# Altium integrated library Lattice ORCA Series 3.IntLib: 93 symbols (part 4 of 14)
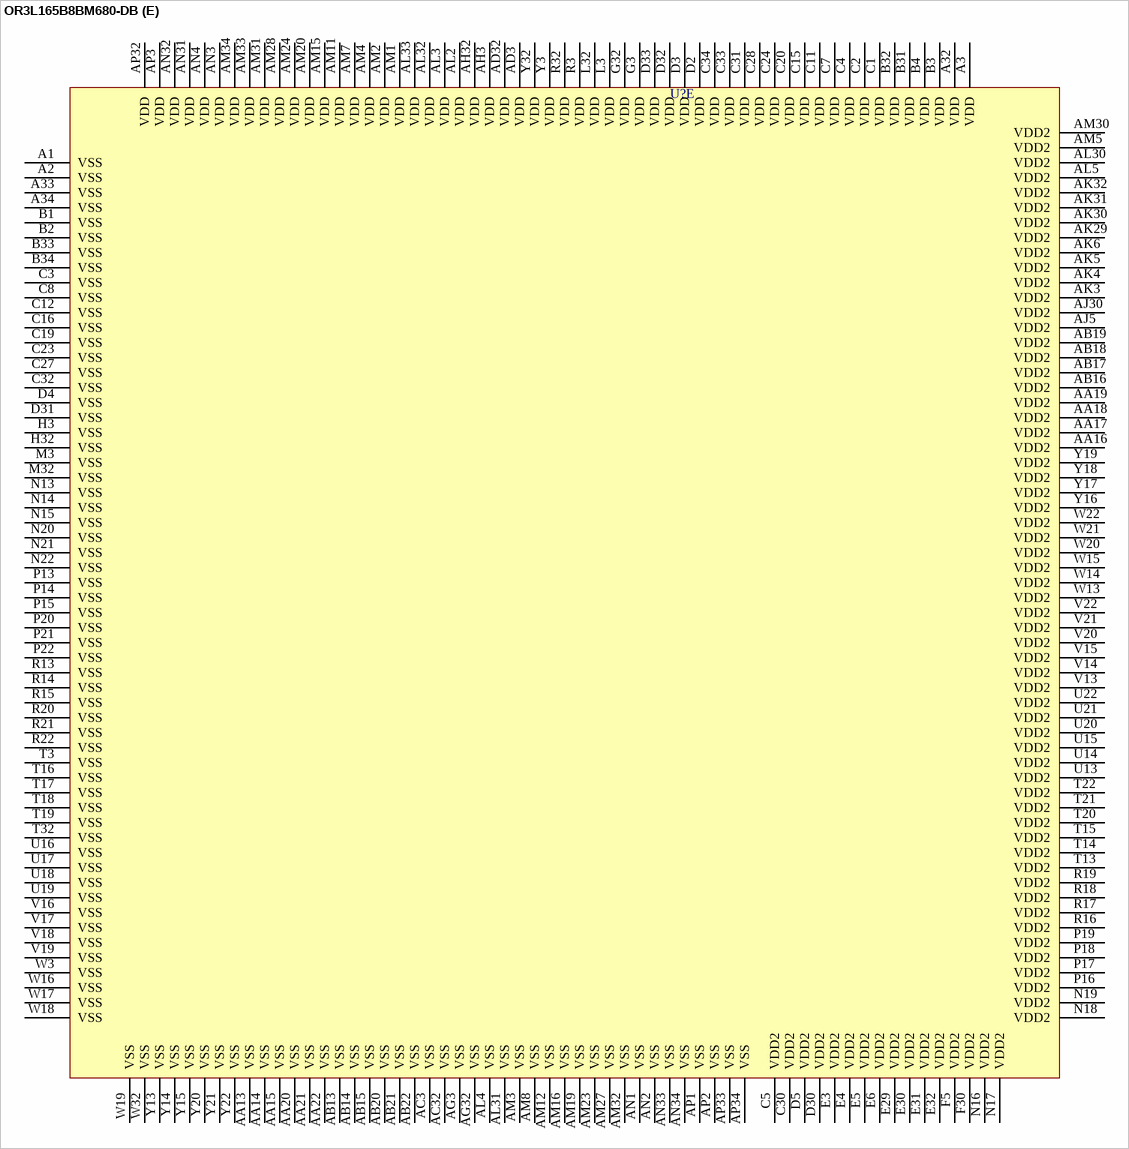
[diagram p139: symbol OR3L165B8BM680-DB]

## OR3L165B8BM680-DB
designator U?
ORCA Series 3L FPGA: 2.5 V, Commercial Grade, 516 I/Os.; Published: 21-May-2003; LatestRevisionDate: 13-Apr-2006; LatestRevisionNote: IPC-7351 Footprint Added.; DatasheetVersion: Mar-2002; PackageVersion: pkg_32, Aug-2005; PackageReference: fpBGA680; Publisher: Altium Limited; PackageDescription: 680-Ball Fine Pitch Ball Grid Array (fpBGA680); ComponentLink1Description: Manufacturer Link; ComponentLink1URL: http://www.latticesemi.com/products/fpga/orca/orca3/index.cfm; ComponentLink2Description: Datasheet; ComponentLink2URL: http://www.latticesemi.com/account/_download.cfm?AMID=3971; ComponentLink3Description: Lattice Login; ComponentLink3URL: http://www.latticesemi.com/account/login.cfm
footprint fpBGA680 (BGA, 680-Leads, Body 35x35mm, Pitch 1mm)
3D model OR3L165B-fpBGA680 (680-Ball Fine Pitch Ball Grid Array (fpBGA680))
part A pins: AA1 PL21B (io), AA2 PL21A (io), AA3 PL22D (io), AA4 PL22C (io), AA5 PL22B (io), AB1 PL22A/A11/~{MPI_IRQ} (io), AB2 PL23D/A12 (io), AB3 PL23C (io), AB4 PL23A (io), AB5 PL24D (io), AC1 PL24C (io), AC2 PL24B/A13 (io), AC4 PL24A (io), AC5 PL25D (io), AD1 PL25C (io), AD2 PL25B (io), AD4 PL25A (io), AD5 PL26D (io), AE1 PL26C (io), AE2 PL26B (io), AE3 PL26A (io), AE4 PL27D (io), AE5 PL27C (io), AF1 PL27B (io), AF2 PL27A/A14 (io), AF3 PL28D (io), AF4 PL28C (io), AF5 PL28B (io), AG1 PL28A (io), AG2 PL29C (io), AG4 PL29B (io), AG5 PL29A (io), AH1 PL30D (io), AH2 PL30C (io), AH4 PL30B (io), AH5 PL30A/SECKLL (io), AJ1 PL31D (io), AJ2 PL31C (io), AJ3 PL31A (io), AJ4 PL32C (io), AK1 PL32B (io), AK2 PL32A/A15 (io), D1 PL1D (io), E1 PL1B (io), E2 PL1C (io), F1 PL3D/A0/~{MPI_BE0} (io), F2 PL2A (io), F3 PL2D (io), F4 PL1A (io), G1 PL4D (io), G2 PL3A (io), G4 PL3B (io), G5 PL3C (io), H1 PL5C (io), H2 PL4A (io), H4 PL4B (io), H5 PL4C (io), J1 PL6B (io), J2 PL6C (io), J3 PL6D (io), J4 PL5A (io), J5 PL5B (io), K1 PL7A (io), K2 PL7B (io), K3 PL7C (io), K4 PL7D (io), K5 PL6A (io), L1 PL8A (io), L2 PL8B (io), L4 PL8C (io), L5 PL8D/A1/~{MPI_BE1} (io), M1 PL9A/A2 (io), M2 PL9B (io), M4 PL9C (io), M5 PL9D (io), N1 PL11C (io), N2 PL10A/A3 (io), N3 PL10B (io), N4 PL10C (io), N5 PL10D (io), P1 PL12B (io), P2 PL12C (io), P3 PL12D (io), P4 PL11A (io), P5 PL11B (io), R1 PL13B (io), R2 PL13C (io), R4 PL13D/A5 (io), R5 PL12A/A4 (io), T1 PL14A/A6 (io), T2 PL14B (io), T4 PL14C (io), T5 PL14D (io), U1 PL16A/A7/MPI_CLK (io), U2 PL16C (io), U3 PL15A (io), U4 PL15C (io), U5 ECKL (in), V1 PL17D (io), V2 PL18C (io), V3 PL18A/A8/MPI_RW (io), V4 PL19D/A9/~{MPI_ACK} (io), V5 PL19C (io), W1 PL19B (io), W2 PL19A (io), W4 PL20D (io), W5 PL20C (io), Y1 PL20B (io), Y2 PL20A/A10/~{MPI_BI} (io), Y4 PL21D (io), Y5 PL21C (io)
part B pins: AK7 PB3B (io), AK8 PB4C (io), AK9 PB5C (io), AK10 PB6D (io), AK11 PB8A (io), AK12 PB9A (io), AK13 PB10A (io), AK14 PB11C (io), AK15 PB12D (io), AK16 PB13D (io), AK17 PB14D (io), AK18 PB18D (io), AK19 PB20A (io), AK20 PB21A/HDC (io), AK21 PB22B (io), AK22 PB23D (io), AK23 PB24D (io), AK24 PB25D (io), AK25 PB27A/~{INIT} (io), AK26 PB28C (io), AK27 PB29C (io), AK28 PB30C (io), AL6 PB1D (io), AL7 PB3C (io), AL8 PB4D (io), AL9 PB5D/A17 (io), AL10 PB7A (io), AL11 PB8B (io), AL12 PB9B (io), AL13 PB10B (io), AL14 PB11D (io), AL15 PB13A (io), AL16 PB14A (io), AL17 PB15B (io), AL18 PB18B (io), AL19 PB19D (io), AL20 PB20D (io), AL21 PB22A (io), AL22 PB23C (io), AL23 PB24C (io), AL24 PB25C (io), AL25 PB26D (io), AL26 PB28B (io), AL27 PB29B (io), AL28 PB30B (io), AL29 PB32A (io), AM6 PB2A (io), AM9 PB6A (io), AM10 PB7B (io), AM13 PB10C (io), AM14 PB12A (io), AM17 PB15D (io), AM18 PB17D (io), AM21 PB21D (io), AM22 PB23B (io), AM25 PB26C (io), AM26 PB27D (io), AM29 PB31D (io), AN5 PB1B (io), AN6 PB2D (io), AN7 PB4A (io), AN8 PB5A (io), AN9 PB6B (io), AN10 PB7C (io), AN11 PB8C (io), AN12 PB9C (io), AN13 PB10D (io), AN14 PB12B (io), AN15 PB13B (io), AN16 PB14B (io), AN17 PB16A (io), AN18 ECKB (in), AN19 PB19C (io), AN20 PB20C (io), AN21 PB21C (io), AN22 PB23A/~{LDC} (io), AN23 PB24B (io), AN24 PB25B (io), AN25 PB26B (io), AN26 PB27C (io), AN27 PB29A (io), AN28 PB30A (io), AN29 PB31A (io), AN30 PB32D (io), AP4 PB1A/A16 (io), AP5 PB1C (io), AP6 PB3A (io), AP7 PB4B (io), AP8 PB5B (io), AP9 PB6C (io), AP10 PB7D (io), AP11 PB8D (io), AP12 PB9D (io), AP13 PB11B (io), AP14 PB12C (io), AP15 PB13C (io), AP16 PB14C (io), AP17 PB16B (io), AP18 PB16D (io), AP19 PB19B (io), AP20 PB20B (io), AP21 PB21B (io), AP22 PB22C (io), AP23 PB24A (io), AP24 PB25A (io), AP25 PB26A (io), AP26 PB27B (io), AP27 PB28D (io), AP28 PB29D (io), AP29 PB30D (io), AP30 PB32C (io)
part C pins: AA30 PR22C (io), AA31 PR22D (io), AA32 PR21A (io), AA33 PR21B (io), AA34 PR21C (io), AB30 PR23B (io), AB31 PR23C (io), AB32 PR23D (io), AB33 PR22A/M2 (io), AB34 PR22B (io), AC30 PR24A (io), AC31 PR24B (io), AC33 PR24C (io), AC34 PR23A (io), AD30 PR25A (io), AD31 PR25B (io), AD33 PR25C (io), AD34 PR25D/M1 (io), AE30 PR27D (io), AE31 PR26A (io), AE32 PR26B (io), AE33 PR26C (io), AE34 PR26D (io), AF30 PR28C (io), AF31 PR28D (io), AF32 PR27A (io), AF33 PR27B (io), AF34 PR27C (io), AG30 PR29C (io), AG31 PR29D (io), AG33 PR28A (io), AG34 PR28B (io), AH30 PR30C (io), AH31 PR30D (io), AH33 PR29A (io), AH34 PR29B (io), AJ31 PR32B (io), AJ32 PR31A (io), AJ33 PR31D (io), AJ34 PR30B (io), AK34 PR32A/M0 (io), E33 PR1D (io), E34 PR1B (io), F31 PR1A (io), F32 PR2D (io), F33 PR2B (io), F34 PR2A (io), G30 PR3D (io), G31 PR3C (io), G33 PR3B (io), G34 PR3A (io), H30 PR4D (io), H31 PR4C (io), H33 PR4B (io), H34 PR4A/~{WR} (io), J30 PR5D (io), J31 PR5C (io), J32 PR5B (io), J33 PR6D (io), J34 PR6C (io), K30 PR6B (io), K31 PR6A (io), K32 PR7D (io), K33 PR7C (io), K34 PR7B (io), L30 PR7A (io), L31 PR8D (io), L33 PR8C (io), L34 PR8B (io), M30 PR8A/~{RD}/~{MPI_STRB} (io), M31 PR9D (io), M33 PR9C (io), M34 PR9B (io), N30 PR9A (io), N31 PR10D (io), N32 PR10C (io), N33 PR10B (io), N34 PR10A/~{CS0} (io), P30 PR11C (io), P31 PR11B (io), P32 PR11A (io), P33 PR12D (io), P34 PR12C (io), R30 PR12B (io), R31 PR12A/CS1 (io), R33 PR13D (io), R34 PR13C (io), T30 PR13B (io), T31 PR13A (io), T33 PR14D (io), T34 PR14C (io), U30 PR14B (io), U31 PR15D (io), U32 PR15B (io), U33 PR16D (io), U34 ECKR (in), V30 PR18A (io), V31 PR18B (io), V32 PR18D (io), V33 PR17B (io), V34 PR17D (io), W30 PR20D (io), W31 PR19A (io), W33 PR19B (io), W34 PR19C (io), Y30 PR21D (io), Y31 PR20A/M3 (io), Y33 PR20B (io), Y34 PR20C (io)
part D pins: A4 RD_DATA/TDO (out), A5 PT1C (io), A6 PT2D (io), A7 PT3D (io), A8 PT4D (io), A9 PT6B (io), A10 PT7C (io), A11 PT8C (io), A12 PT9C (io), A13 PT11A/DOUT (io), A14 PT12B (io), A15 PT13B (io), A16 PT14B (io), A17 PT16D (io), A18 PT17A/D3 (io), A19 PT19B (io), A20 PT20B (io), A21 PT21B (io), A22 PT22D (io), A23 PT24A (io), A24 PT25A (io), A25 PT26A (io), A26 PT27C (io), A27 PT28D (io), A28 PT29D (io), A29 PT30D (io), A30 PT32A (io), A31 PT32D/SECKUR (io), AK33 ~{PRGM} (in), AL1 CCLK (io), AL34 ~{RESET} (in), AP31 DONE (io), B5 PT1A/TCK (io), B6 PT2C (io), B7 PT3C (io), B8 PT4C (io), B9 PT5D (io), B10 PT7B (io), B11 PT8B (io), B12 PT9B (io), B13 PT10C (io), B14 PT12A (io), B15 PT13A/D0/DIN (io), B16 PT14A (io), B17 PT16C (io), B18 PT17C (io), B19 PT19C (io), B20 PT20C (io), B21 PT21C (io), B22 PT23A (io), B23 PT24B (io), B24 PT25B (io), B25 PT26B (io), B26 PT27D/D7 (io), B27 PT29A (io), B28 PT30A/RDY/RCLK/MPI_ALE (io), B29 PT31A (io), B30 PT32C (io), C6 PT2A (io), C9 PT5C (io), C10 PT7A/TDI (io), C13 PT10B (io), C14 PT11D (io), C17 PT15A/D2 (io), C18 PT17D (io), C21 PT22A (io), C22 PT23B (io), C25 PT26C (io), C26 PT28A (io), C29 PT31B (io), D6 PT1D (io), D7 PT3B (io), D8 PT4B (io), D9 PT5B (io), D10 PT6D (io), D11 PT8A (io), D12 PT9A (io), D13 PT10A (io), D14 PT11C (io), D15 PT12D (io), D16 PT13D (io), D17 PT14D/D1 (io), D18 ECKT (in), D19 PT19D (io), D20 PT20D (io), D21 PT22B (io), D22 PT23C (io), D23 PT24C (io), D24 PT25C (io), D25 PT27A (io), D26 PT28B (io), D27 PT29B (io), D28 PT30B (io), D29 PT31D (io), D34 ~{RD_CFG} (in), E7 PT3A (io), E8 PT4A (io), E9 PT5A/TMS (io), E10 PT6C (io), E11 PT7D (io), E12 PT8D (io), E13 PT9D (io), E14 PT11B (io), E15 PT12C (io), E16 PT13C (io), E17 PT14C (io), E18 PT19A/D4 (io), E19 PT20A (io), E20 PT21A/D5 (io), E21 PT22C (io), E22 PT23D/D6 (io), E23 PT24D (io), E24 PT25D (io), E25 PT27B (io), E26 PT28C (io), E27 PT29C (io), E28 PT30C (io)
part E pins: A1 VSS (power), A2 VSS (power), A3 VDD (power), A32 VDD (power), A33 VSS (power), A34 VSS (power), AA13 VSS (power), AA14 VSS (power), AA15 VSS (power), AA16 VDD2 (power), AA17 VDD2 (power), AA18 VDD2 (power), AA19 VDD2 (power), AA20 VSS (power), AA21 VSS (power), AA22 VSS (power), AB13 VSS (power), AB14 VSS (power), AB15 VSS (power), AB16 VDD2 (power), AB17 VDD2 (power), AB18 VDD2 (power), AB19 VDD2 (power), AB20 VSS (power), AB21 VSS (power), AB22 VSS (power), AC3 VSS (power), AC32 VSS (power), AD3 VDD (power), AD32 VDD (power), AG3 VSS (power), AG32 VSS (power), AH3 VDD (power), AH32 VDD (power), AJ5 VDD2 (power), AJ30 VDD2 (power), AK3 VDD2 (power), AK4 VDD2 (power), AK5 VDD2 (power), AK6 VDD2 (power), AK29 VDD2 (power), AK30 VDD2 (power), AK31 VDD2 (power), AK32 VDD2 (power), AL2 VDD (power), AL3 VDD (power), AL4 VSS (power), AL5 VDD2 (power), AL30 VDD2 (power), AL31 VSS (power), AL32 VDD (power), AL33 VDD (power), AM1 VDD (power), AM2 VDD (power), AM3 VSS (power), AM4 VDD (power), AM5 VDD2 (power), AM7 VDD (power), AM8 VSS (power), AM11 VDD (power), AM12 VSS (power), AM15 VDD (power), AM16 VSS (power), AM19 VSS (power), AM20 VDD (power), AM23 VSS (power), AM24 VDD (power), AM27 VSS (power), AM28 VDD (power), AM30 VDD2 (power), AM31 VDD (power), AM32 VSS (power), AM33 VDD (power), AM34 VDD (power), AN1 VSS (power), AN2 VSS (power), AN3 VDD (power), AN4 VDD (power), AN31 VDD (power), AN32 VDD (power), AN33 VSS (power), AN34 VSS (power), AP1 VSS (power), AP2 VSS (power), AP3 VDD (power), AP32 VDD (power), AP33 VSS (power), AP34 VSS (power), B1 VSS (power), B2 VSS (power), B3 VDD (power), B4 VDD (power), B31 VDD (power), B32 VDD (power), B33 VSS (power), B34 VSS (power), C1 VDD (power), C2 VDD (power), C3 VSS (power), C4 VDD (power), C5 VDD2 (power), C7 VDD (power), C8 VSS (power), C11 VDD (power), C12 VSS (power), C15 VDD (power), C16 VSS (power), C19 VSS (power), C20 VDD (power), C23 VSS (power), C24 VDD (power), C27 VSS (power), C28 VDD (power), C30 VDD2 (power), C31 VDD (power), C32 VSS (power), C33 VDD (power), C34 VDD (power), D2 VDD (power), D3 VDD (power), D4 VSS (power), D5 VDD2 (power), D30 VDD2 (power), D31 VSS (power), D32 VDD (power), D33 VDD (power), E3 VDD2 (power), E4 VDD2 (power), E5 VDD2 (power), E6 VDD2 (power), E29 VDD2 (power), E30 VDD2 (power), E31 VDD2 (power), E32 VDD2 (power), F5 VDD2 (power), F30 VDD2 (power), G3 VDD (power), G32 VDD (power), H3 VSS (power), H32 VSS (power), L3 VDD (power), L32 VDD (power), M3 VSS (power), M32 VSS (power), N13 VSS (power), N14 VSS (power), N15 VSS (power), N16 VDD2 (power), N17 VDD2 (power), N18 VDD2 (power), N19 VDD2 (power), N20 VSS (power), N21 VSS (power), N22 VSS (power), P13 VSS (power), P14 VSS (power), P15 VSS (power), P16 VDD2 (power), P17 VDD2 (power), P18 VDD2 (power), P19 VDD2 (power), P20 VSS (power), P21 VSS (power), P22 VSS (power), R3 VDD (power), R13 VSS (power), R14 VSS (power), R15 VSS (power), R16 VDD2 (power), R17 VDD2 (power), R18 VDD2 (power), R19 VDD2 (power), R20 VSS (power), R21 VSS (power), R22 VSS (power), R32 VDD (power), T3 VSS (power), T13 VDD2 (power), T14 VDD2 (power), T15 VDD2 (power), T16 VSS (power), T17 VSS (power), T18 VSS (power), T19 VSS (power), T20 VDD2 (power), T21 VDD2 (power), T22 VDD2 (power), T32 VSS (power), U13 VDD2 (power), U14 VDD2 (power), U15 VDD2 (power), U16 VSS (power), U17 VSS (power), U18 VSS (power), U19 VSS (power), U20 VDD2 (power), U21 VDD2 (power), U22 VDD2 (power), V13 VDD2 (power), V14 VDD2 (power), V15 VDD2 (power), V16 VSS (power), V17 VSS (power), V18 VSS (power), V19 VSS (power), V20 VDD2 (power), V21 VDD2 (power), V22 VDD2 (power), W3 VSS (power), W13 VDD2 (power), W14 VDD2 (power), W15 VDD2 (power), W16 VSS (power), W17 VSS (power), W18 VSS (power), W19 VSS (power), W20 VDD2 (power), W21 VDD2 (power), W22 VDD2 (power), W32 VSS (power), Y3 VDD (power), Y13 VSS (power), Y14 VSS (power), Y15 VSS (power), Y16 VDD2 (power), Y17 VDD2 (power), Y18 VDD2 (power), Y19 VDD2 (power), Y20 VSS (power), Y21 VSS (power), Y22 VSS (power), Y32 VDD (power)

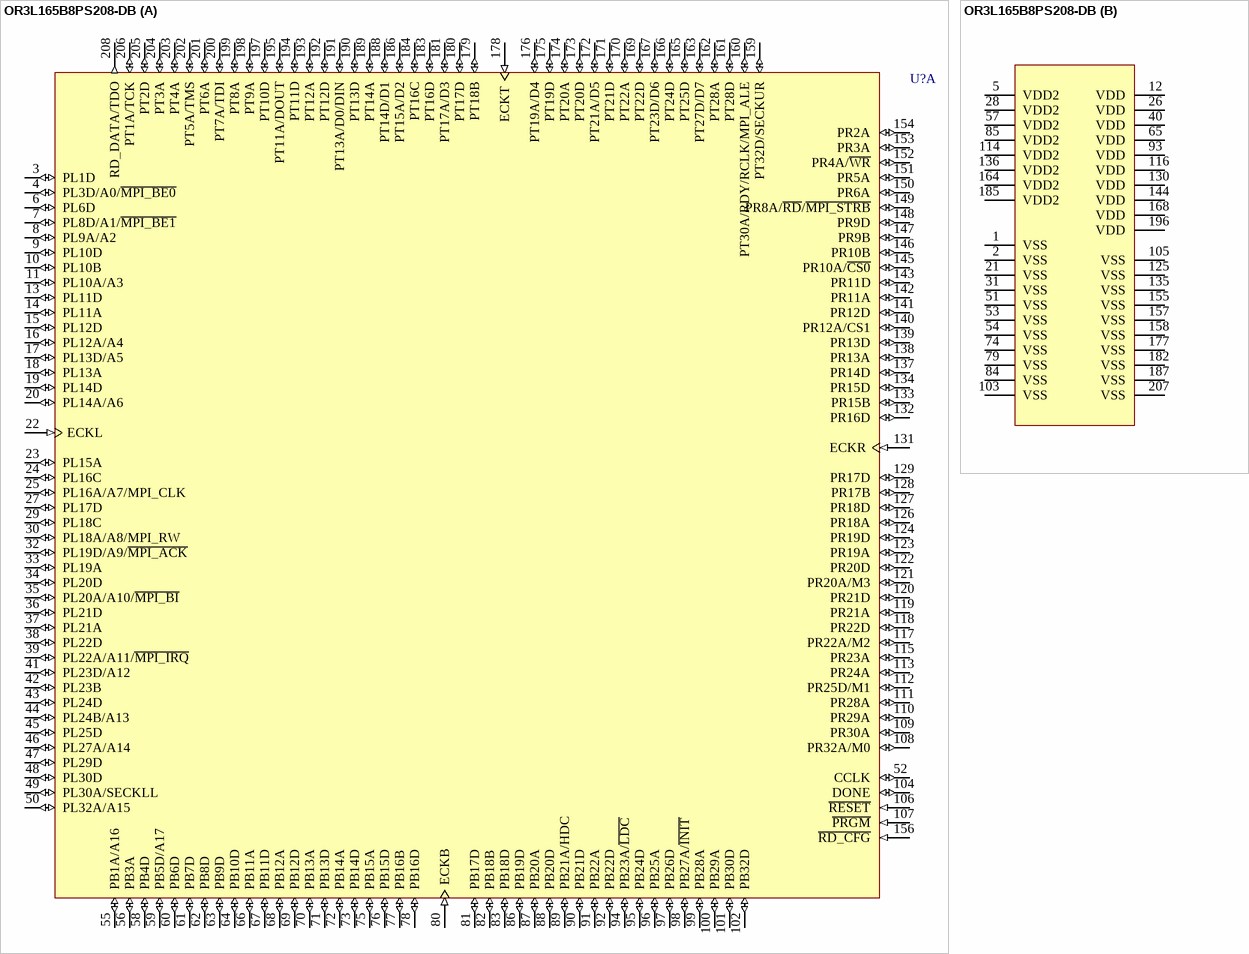
[diagram p37: symbol OR3L165B8PS208-DB]

## OR3L165B8PS208-DB
designator U?
ORCA Series 3L FPGA: 2.5 V, Commercial Grade, 516 I/Os.; Published: 21-May-2003; LatestRevisionDate: 13-Apr-2006; LatestRevisionNote: IPC-7351 Footprint Added.; DatasheetVersion: Mar-2002; PackageVersion: pkg_32, Aug-2005; PackageReference: PQFP208; Publisher: Altium Limited; PackageDescription: 208-Pin Plastic Quad Flat Pack (PQFP208); Code_JEDEC: MO-143-FAI; ComponentLink1Description: Manufacturer Link; ComponentLink1URL: http://www.latticesemi.com/products/fpga/orca/orca3/index.cfm; ComponentLink2Description: Datasheet; ComponentLink2URL: http://www.latticesemi.com/account/_download.cfm?AMID=3971; ComponentLink3Description: Lattice Login; ComponentLink3URL: http://www.latticesemi.com/account/login.cfm
footprint PQFP208_N (Shrink QFP, 208-Leads, Body 28x28mm, Pitch 0.5mm, IPC Medium Density)
footprint PQFP208_L (Shrink QFP, 208-Leads, Body 28x28mm, Pitch 0.5mm, IPC High Density)
footprint PQFP208_M (Shrink QFP, 208-Leads, Body 28x28mm, Pitch 0.5mm, IPC Low Density)
3D model OR3L165B-PQFP208 (208-Pin Plastic Quad Flat Pack (PQFP208))
part A pins: 3 PL1D (io), 4 PL3D/A0/~{MPI_BE0} (io), 6 PL6D (io), 7 PL8D/A1/~{MPI_BE1} (io), 8 PL9A/A2 (io), 9 PL10D (io), 10 PL10B (io), 11 PL10A/A3 (io), 13 PL11D (io), 14 PL11A (io), 15 PL12D (io), 16 PL12A/A4 (io), 17 PL13D/A5 (io), 18 PL13A (io), 19 PL14D (io), 20 PL14A/A6 (io), 22 ECKL (in), 23 PL15A (io), 24 PL16C (io), 25 PL16A/A7/MPI_CLK (io), 27 PL17D (io), 29 PL18C (io), 30 PL18A/A8/MPI_RW (io), 32 PL19D/A9/~{MPI_ACK} (io), 33 PL19A (io), 34 PL20D (io), 35 PL20A/A10/~{MPI_BI} (io), 36 PL21D (io), 37 PL21A (io), 38 PL22D (io), 39 PL22A/A11/~{MPI_IRQ} (io), 41 PL23D/A12 (io), 42 PL23B (io), 43 PL24D (io), 44 PL24B/A13 (io), 45 PL25D (io), 46 PL27A/A14 (io), 47 PL29D (io), 48 PL30D (io), 49 PL30A/SECKLL (io), 50 PL32A/A15 (io), 52 CCLK (io), 55 PB1A/A16 (io), 56 PB3A (io), 58 PB4D (io), 59 PB5D/A17 (io), 60 PB6D (io), 61 PB7D (io), 62 PB8D (io), 63 PB9D (io), 64 PB10D (io), 66 PB11A (io), 67 PB11D (io), 68 PB12A (io), 69 PB12D (io), 70 PB13A (io), 71 PB13D (io), 72 PB14A (io), 73 PB14D (io), 75 PB15A (io), 76 PB15D (io), 77 PB16B (io), 78 PB16D (io), 80 ECKB (in), 81 PB17D (io), 82 PB18B (io), 83 PB18D (io), 86 PB19D (io), 87 PB20A (io), 88 PB20D (io), 89 PB21A/HDC (io), 90 PB21D (io), 91 PB22A (io), 92 PB22D (io), 94 PB23A/~{LDC} (io), 95 PB24D (io), 96 PB25A (io), 97 PB26D (io), 98 PB27A/~{INIT} (io), 99 PB28A (io), 100 PB29A (io), 101 PB30D (io), 102 PB32D (io), 104 DONE (io), 106 ~{RESET} (in), 107 ~{PRGM} (in), 108 PR32A/M0 (io), 109 PR30A (io), 110 PR29A (io), 111 PR28A (io), 112 PR25D/M1 (io), 113 PR24A (io), 115 PR23A (io), 117 PR22A/M2 (io), 118 PR22D (io), 119 PR21A (io), 120 PR21D (io), 121 PR20A/M3 (io), 122 PR20D (io), 123 PR19A (io), 124 PR19D (io), 126 PR18A (io), 127 PR18D (io), 128 PR17B (io), 129 PR17D (io), 131 ECKR (in), 132 PR16D (io), 133 PR15B (io), 134 PR15D (io), 137 PR14D (io), 138 PR13A (io), 139 PR13D (io), 140 PR12A/CS1 (io), 141 PR12D (io), 142 PR11A (io), 143 PR11D (io), 145 PR10A/~{CS0} (io), 146 PR10B (io), 147 PR9B (io), 148 PR9D (io), 149 PR8A/~{RD}/~{MPI_STRB} (io), 150 PR6A (io), 151 PR5A (io), 152 PR4A/~{WR} (io), 153 PR3A (io), 154 PR2A (io), 156 ~{RD_CFG} (in), 159 PT32D/SECKUR (io), 160 PT30A/RDY/RCLK/MPI_ALE (io), 161 PT28D (io), 162 PT28A (io), 163 PT27D/D7 (io), 165 PT25D (io), 166 PT24D (io), 167 PT23D/D6 (io), 169 PT22D (io), 170 PT22A (io), 171 PT21D (io), 172 PT21A/D5 (io), 173 PT20D (io), 174 PT20A (io), 175 PT19D (io), 176 PT19A/D4 (io), 178 ECKT (in), 179 PT18B (io), 180 PT17D (io), 181 PT17A/D3 (io), 183 PT16D (io), 184 PT16C (io), 186 PT15A/D2 (io), 188 PT14D/D1 (io), 189 PT14A (io), 190 PT13D (io), 191 PT13A/D0/DIN (io), 192 PT12D (io), 193 PT12A (io), 194 PT11D (io), 195 PT11A/DOUT (io), 197 PT10D (io), 198 PT9A (io), 199 PT8A (io), 200 PT7A/TDI (io), 201 PT6A (io), 202 PT5A/TMS (io), 203 PT4A (io), 204 PT3A (io), 205 PT2D (io), 206 PT1A/TCK (io), 208 RD_DATA/TDO (out)
part B pins: 1 VSS (power), 2 VSS (power), 5 VDD2 (power), 12 VDD (power), 21 VSS (power), 26 VDD (power), 28 VDD2 (power), 31 VSS (power), 40 VDD (power), 51 VSS (power), 53 VSS (power), 54 VSS (power), 57 VDD2 (power), 65 VDD (power), 74 VSS (power), 79 VSS (power), 84 VSS (power), 85 VDD2 (power), 93 VDD (power), 103 VSS (power), 105 VSS (power), 114 VDD2 (power), 116 VDD (power), 125 VSS (power), 130 VDD (power), 135 VSS (power), 136 VDD2 (power), 144 VDD (power), 155 VSS (power), 157 VSS (power), 158 VSS (power), 164 VDD2 (power), 168 VDD (power), 177 VSS (power), 182 VSS (power), 185 VDD2 (power), 187 VSS (power), 196 VDD (power), 207 VSS (power)

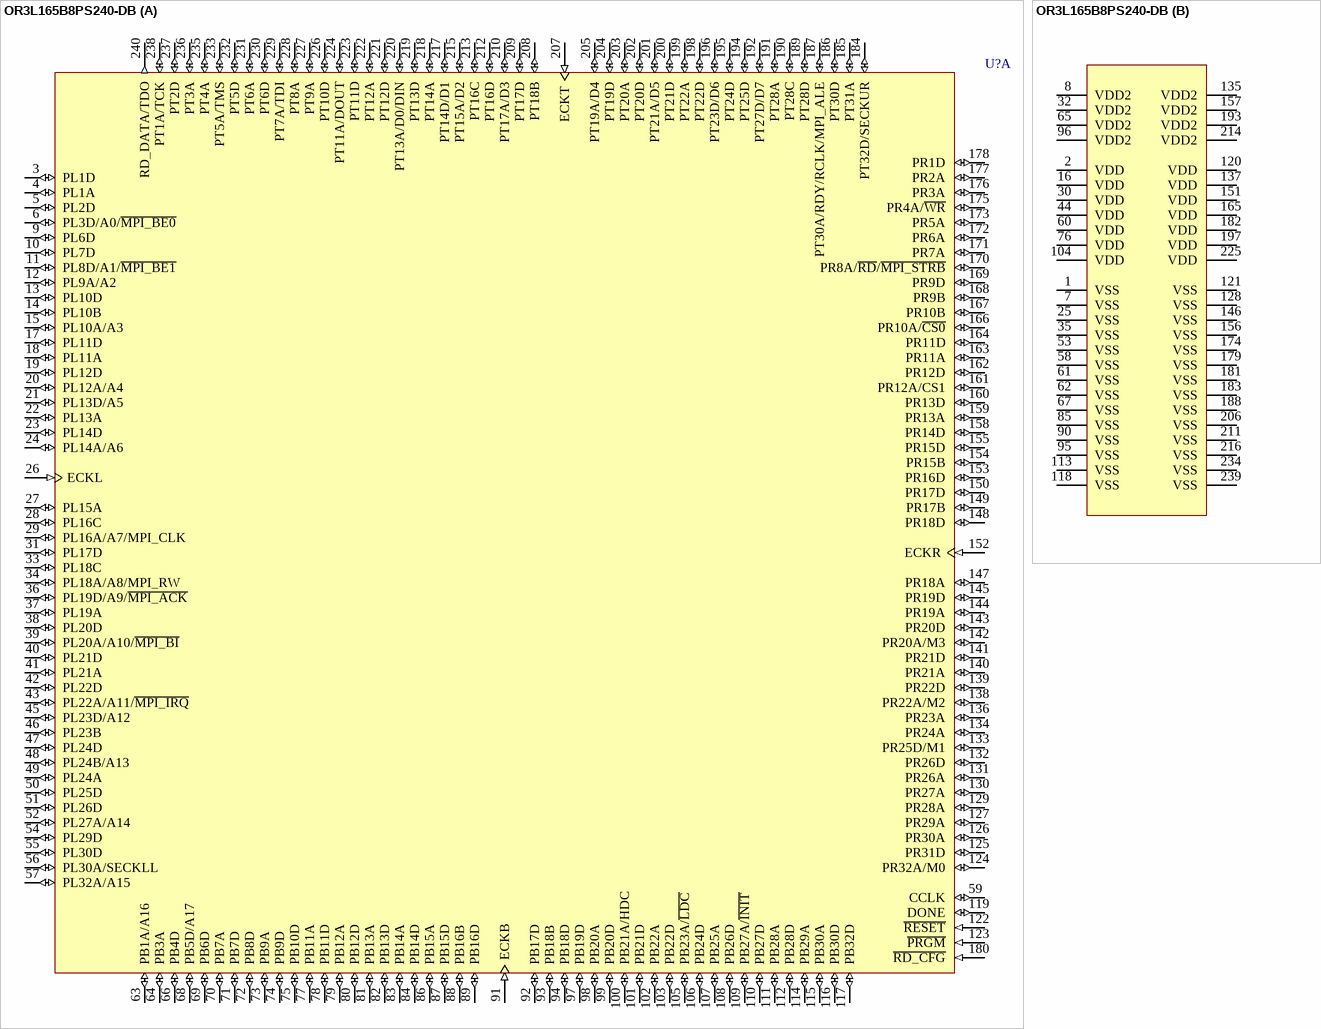
[diagram p38: symbol OR3L165B8PS240-DB]

## OR3L165B8PS240-DB
designator U?
ORCA Series 3L FPGA: 2.5 V, Commercial Grade, 516 I/Os.; Published: 21-May-2003; LatestRevisionDate: 13-Apr-2006; LatestRevisionNote: IPC-7351 Footprint Added.; DatasheetVersion: Mar-2002; PackageVersion: pkg_32, Aug-2005; PackageReference: PQFP240; Publisher: Altium Limited; PackageDescription: 240-Pin Shrink Quad Flat Pack 0.5 mm Pitch; ComponentLink1Description: Manufacturer Link; ComponentLink1URL: http://www.latticesemi.com/products/fpga/orca/orca3/index.cfm; ComponentLink2Description: Datasheet; ComponentLink2URL: http://www.latticesemi.com/account/_download.cfm?AMID=3971; ComponentLink3Description: Lattice Login; ComponentLink3URL: http://www.latticesemi.com/account/login.cfm
footprint PQFP240_N (Shrink QFP, 240-Leads, Body 32x32mm, Pitch 0.5mm, IPC Medium Density)
footprint PQFP240_L (Shrink QFP, 240-Leads, Body 32x32mm, Pitch 0.5mm, IPC High Density)
footprint PQFP240_M (Shrink QFP, 240-Leads, Body 32x32mm, Pitch 0.5mm, IPC Low Density)
3D model OR3L165B-PQFP240 (240-Pin Shrink Quad Flat Pack 0.5 mm Pitch)
part A pins: 3 PL1D (io), 4 PL1A (io), 5 PL2D (io), 6 PL3D/A0/~{MPI_BE0} (io), 9 PL6D (io), 10 PL7D (io), 11 PL8D/A1/~{MPI_BE1} (io), 12 PL9A/A2 (io), 13 PL10D (io), 14 PL10B (io), 15 PL10A/A3 (io), 17 PL11D (io), 18 PL11A (io), 19 PL12D (io), 20 PL12A/A4 (io), 21 PL13D/A5 (io), 22 PL13A (io), 23 PL14D (io), 24 PL14A/A6 (io), 26 ECKL (in), 27 PL15A (io), 28 PL16C (io), 29 PL16A/A7/MPI_CLK (io), 31 PL17D (io), 33 PL18C (io), 34 PL18A/A8/MPI_RW (io), 36 PL19D/A9/~{MPI_ACK} (io), 37 PL19A (io), 38 PL20D (io), 39 PL20A/A10/~{MPI_BI} (io), 40 PL21D (io), 41 PL21A (io), 42 PL22D (io), 43 PL22A/A11/~{MPI_IRQ} (io), 45 PL23D/A12 (io), 46 PL23B (io), 47 PL24D (io), 48 PL24B/A13 (io), 49 PL24A (io), 50 PL25D (io), 51 PL26D (io), 52 PL27A/A14 (io), 54 PL29D (io), 55 PL30D (io), 56 PL30A/SECKLL (io), 57 PL32A/A15 (io), 59 CCLK (io), 63 PB1A/A16 (io), 64 PB3A (io), 66 PB4D (io), 68 PB5D/A17 (io), 69 PB6D (io), 70 PB7A (io), 71 PB7D (io), 72 PB8D (io), 73 PB9A (io), 74 PB9D (io), 75 PB10D (io), 77 PB11A (io), 78 PB11D (io), 79 PB12A (io), 80 PB12D (io), 81 PB13A (io), 82 PB13D (io), 83 PB14A (io), 84 PB14D (io), 86 PB15A (io), 87 PB15D (io), 88 PB16B (io), 89 PB16D (io), 91 ECKB (in), 92 PB17D (io), 93 PB18B (io), 94 PB18D (io), 97 PB19D (io), 98 PB20A (io), 99 PB20D (io), 100 PB21A/HDC (io), 101 PB21D (io), 102 PB22A (io), 103 PB22D (io), 105 PB23A/~{LDC} (io), 106 PB24D (io), 107 PB25A (io), 108 PB26D (io), 109 PB27A/~{INIT} (io), 110 PB27D (io), 111 PB28A (io), 112 PB28D (io), 114 PB29A (io), 115 PB30A (io), 116 PB30D (io), 117 PB32D (io), 119 DONE (io), 122 ~{RESET} (in), 123 ~{PRGM} (in), 124 PR32A/M0 (io), 125 PR31D (io), 126 PR30A (io), 127 PR29A (io), 129 PR28A (io), 130 PR27A (io), 131 PR26A (io), 132 PR26D (io), 133 PR25D/M1 (io), 134 PR24A (io), 136 PR23A (io), 138 PR22A/M2 (io), 139 PR22D (io), 140 PR21A (io), 141 PR21D (io), 142 PR20A/M3 (io), 143 PR20D (io), 144 PR19A (io), 145 PR19D (io), 147 PR18A (io), 148 PR18D (io), 149 PR17B (io), 150 PR17D (io), 152 ECKR (in), 153 PR16D (io), 154 PR15B (io), 155 PR15D (io), 158 PR14D (io), 159 PR13A (io), 160 PR13D (io), 161 PR12A/CS1 (io), 162 PR12D (io), 163 PR11A (io), 164 PR11D (io), 166 PR10A/~{CS0} (io), 167 PR10B (io), 168 PR9B (io), 169 PR9D (io), 170 PR8A/~{RD}/~{MPI_STRB} (io), 171 PR7A (io), 172 PR6A (io), 173 PR5A (io), 175 PR4A/~{WR} (io), 176 PR3A (io), 177 PR2A (io), 178 PR1D (io), 180 ~{RD_CFG} (in), 184 PT32D/SECKUR (io), 185 PT31A (io), 186 PT30D (io), 187 PT30A/RDY/RCLK/MPI_ALE (io), 189 PT28D (io), 190 PT28C (io), 191 PT28A (io), 192 PT27D/D7 (io), 194 PT25D (io), 195 PT24D (io), 196 PT23D/D6 (io), 198 PT22D (io), 199 PT22A (io), 200 PT21D (io), 201 PT21A/D5 (io), 202 PT20D (io), 203 PT20A (io), 204 PT19D (io), 205 PT19A/D4 (io), 207 ECKT (in), 208 PT18B (io), 209 PT17D (io), 210 PT17A/D3 (io), 212 PT16D (io), 213 PT16C (io), 215 PT15A/D2 (io), 217 PT14D/D1 (io), 218 PT14A (io), 219 PT13D (io), 220 PT13A/D0/DIN (io), 221 PT12D (io), 222 PT12A (io), 223 PT11D (io), 224 PT11A/DOUT (io), 226 PT10D (io), 227 PT9A (io), 228 PT8A (io), 229 PT7A/TDI (io), 230 PT6D (io), 231 PT6A (io), 232 PT5D (io), 233 PT5A/TMS (io), 235 PT4A (io), 236 PT3A (io), 237 PT2D (io), 238 PT1A/TCK (io), 240 RD_DATA/TDO (out)
part B pins: 1 VSS (power), 2 VDD (power), 7 VSS (power), 8 VDD2 (power), 16 VDD (power), 25 VSS (power), 30 VDD (power), 32 VDD2 (power), 35 VSS (power), 44 VDD (power), 53 VSS (power), 58 VSS (power), 60 VDD (power), 61 VSS (power), 62 VSS (power), 65 VDD2 (power), 67 VSS (power), 76 VDD (power), 85 VSS (power), 90 VSS (power), 95 VSS (power), 96 VDD2 (power), 104 VDD (power), 113 VSS (power), 118 VSS (power), 120 VDD (power), 121 VSS (power), 128 VSS (power), 135 VDD2 (power), 137 VDD (power), 146 VSS (power), 151 VDD (power), 156 VSS (power), 157 VDD2 (power), 165 VDD (power), 174 VSS (power), 179 VSS (power), 181 VSS (power), 182 VDD (power), 183 VSS (power), 188 VSS (power), 193 VDD2 (power), 197 VDD (power), 206 VSS (power), 211 VSS (power), 214 VDD2 (power), 216 VSS (power), 225 VDD (power), 234 VSS (power), 239 VSS (power)

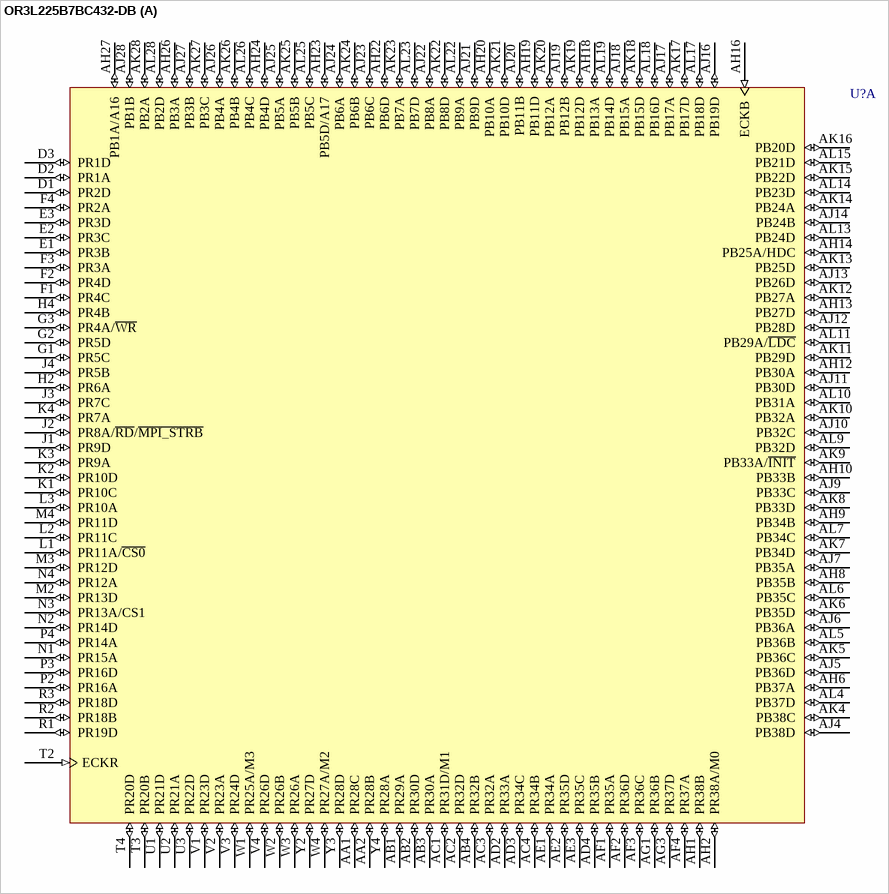
[diagram p39: symbol OR3L225B7BC432-DB]

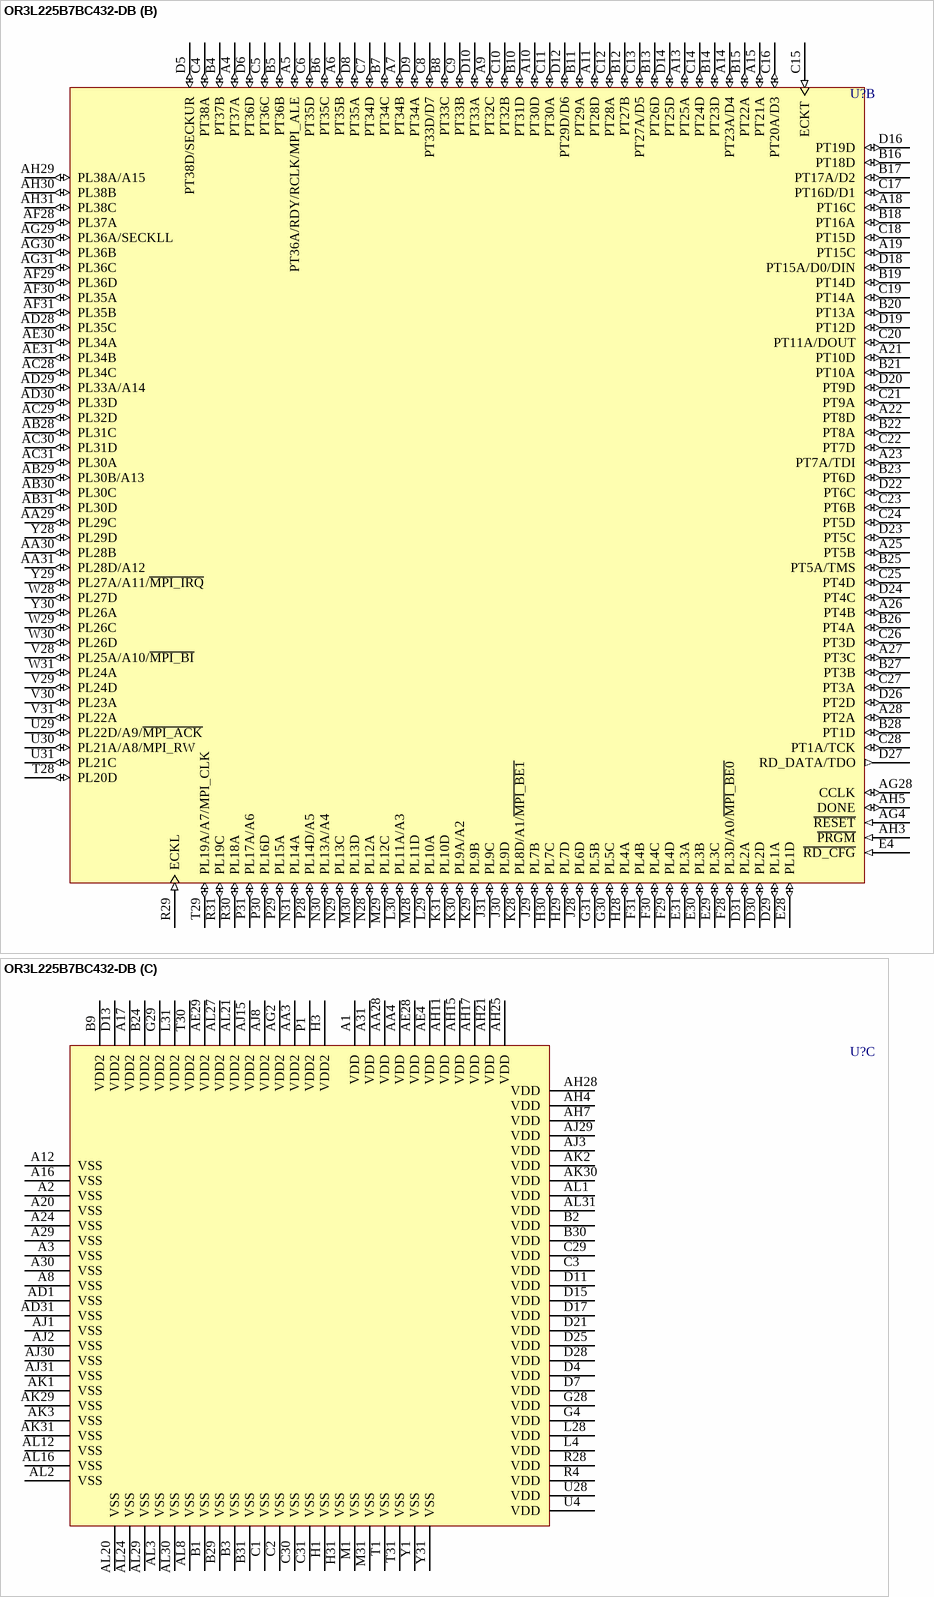
[diagram p40: symbol OR3L225B7BC432-DB]

## OR3L225B7BC432-DB
designator U?
ORCA Series 3L FPGA: 2.5 V, Commercial Grade, 612 I/Os.; Published: 21-May-2003; LatestRevisionDate: 13-Apr-2006; LatestRevisionNote: IPC-7351 Footprint Added.; DatasheetVersion: Mar-2002; PackageVersion: pkg_32, Aug-2005; PackageReference: SBGA432; Publisher: Altium Limited; PackageDescription: 432-Ball Super Ball Grid Array (SBGA432); ComponentLink1Description: Manufacturer Link; ComponentLink1URL: http://www.latticesemi.com/products/fpga/orca/orca3/index.cfm; ComponentLink2Description: Datasheet; ComponentLink2URL: http://www.latticesemi.com/account/_download.cfm?AMID=3971; ComponentLink3Description: Lattice Login; ComponentLink3URL: http://www.latticesemi.com/account/login.cfm
footprint SBGA432 (BGA, 432-Leads, Body 40x40mm, Pitch 1.27mm)
3D model OR3L225B-SBGA432 (432-Ball Super Ball Grid Array (SBGA432))
part A pins: AA1 PR28C (io), AA2 PR28B (io), AB1 PR29A (io), AB2 PR30D (io), AB3 PR30A (io), AB4 PR32B (io), AC1 PR31D/M1 (io), AC2 PR32D (io), AC3 PR32A (io), AC4 PR34B (io), AD2 PR33A (io), AD3 PR34C (io), AD4 PR35B (io), AE1 PR34A (io), AE2 PR35D (io), AE3 PR35C (io), AF1 PR35A (io), AF2 PR36D (io), AF3 PR36C (io), AF4 PR37A (io), AG1 PR36B (io), AG3 PR37D (io), AH1 PR38B (io), AH2 PR38A/M0 (io), AH6 PB37A (io), AH8 PB35B (io), AH9 PB34B (io), AH10 PB33B (io), AH12 PB30A (io), AH13 PB27D (io), AH14 PB25A/HDC (io), AH16 ECKB (in), AH18 PB13A (io), AH19 PB11D (io), AH20 PB10A (io), AH22 PB6D (io), AH23 PB5D/A17 (io), AH24 PB4D (io), AH26 PB3A (io), AH27 PB1A/A16 (io), AJ4 PB38D (io), AJ5 PB36D (io), AJ6 PB36A (io), AJ7 PB35A (io), AJ9 PB33C (io), AJ10 PB32C (io), AJ11 PB30D (io), AJ12 PB28D (io), AJ13 PB26D (io), AJ14 PB24B (io), AJ16 PB19D (io), AJ17 PB17A (io), AJ18 PB15A (io), AJ19 PB12B (io), AJ20 PB11B (io), AJ21 PB9D (io), AJ22 PB8A (io), AJ23 PB6C (io), AJ24 PB6A (io), AJ25 PB5A (io), AJ26 PB4A (io), AJ27 PB3B (io), AJ28 PB1B (io), AK4 PB38C (io), AK5 PB36C (io), AK6 PB35D (io), AK7 PB34D (io), AK8 PB33D (io), AK9 PB33A/~{INIT} (io), AK10 PB32A (io), AK11 PB29D (io), AK12 PB27A (io), AK13 PB25D (io), AK14 PB24A (io), AK15 PB22D (io), AK16 PB20D (io), AK17 PB17D (io), AK18 PB15D (io), AK19 PB12D (io), AK20 PB12A (io), AK21 PB10D (io), AK22 PB8D (io), AK23 PB7A (io), AK24 PB6B (io), AK25 PB5B (io), AK26 PB4B (io), AK27 PB3C (io), AK28 PB2A (io), AL4 PB37D (io), AL5 PB36B (io), AL6 PB35C (io), AL7 PB34C (io), AL9 PB32D (io), AL10 PB31A (io), AL11 PB29A/~{LDC} (io), AL13 PB24D (io), AL14 PB23D (io), AL15 PB21D (io), AL17 PB18D (io), AL18 PB16D (io), AL19 PB14D (io), AL22 PB9A (io), AL23 PB7D (io), AL25 PB5C (io), AL26 PB4C (io), AL28 PB2D (io), D1 PR2D (io), D2 PR1A (io), D3 PR1D (io), E1 PR3B (io), E2 PR3C (io), E3 PR3D (io), F1 PR4C (io), F2 PR4D (io), F3 PR3A (io), F4 PR2A (io), G1 PR5C (io), G2 PR5D (io), G3 PR4A/~{WR} (io), H2 PR6A (io), H4 PR4B (io), J1 PR9D (io), J2 PR8A/~{RD}/~{MPI_STRB} (io), J3 PR7C (io), J4 PR5B (io), K1 PR10C (io), K2 PR10D (io), K3 PR9A (io), K4 PR7A (io), L1 PR11A/~{CS0} (io), L2 PR11C (io), L3 PR10A (io), M2 PR13D (io), M3 PR12D (io), M4 PR11D (io), N1 PR15A (io), N2 PR14D (io), N3 PR13A/CS1 (io), N4 PR12A (io), P2 PR16A (io), P3 PR16D (io), P4 PR14A (io), R1 PR19D (io), R2 PR18B (io), R3 PR18D (io), T2 ECKR (in), T3 PR20B (io), T4 PR20D (io), U1 PR21D (io), U2 PR21A (io), U3 PR22D (io), V1 PR23D (io), V2 PR23A (io), V3 PR24D (io), V4 PR26D (io), W1 PR25A/M3 (io), W2 PR26B (io), W3 PR26A (io), W4 PR27A/M2 (io), Y2 PR27D (io), Y3 PR28D (io), Y4 PR28A (io)
part B pins: A4 PT37A (io), A5 PT36A/RDY/RCLK/MPI_ALE (io), A6 PT35B (io), A7 PT34B (io), A9 PT32C (io), A10 PT30D (io), A11 PT28D (io), A13 PT25A (io), A14 PT23A/D4 (io), A15 PT21A (io), A18 PT16C (io), A19 PT15C (io), A21 PT10D (io), A22 PT8D (io), A23 PT7A/TDI (io), A25 PT5B (io), A26 PT4B (io), A27 PT3C (io), A28 PT2A (io), AA29 PL29C (io), AA30 PL28B (io), AA31 PL28D/A12 (io), AB28 PL31C (io), AB29 PL30B/A13 (io), AB30 PL30C (io), AB31 PL30D (io), AC28 PL34C (io), AC29 PL32D (io), AC30 PL31D (io), AC31 PL30A (io), AD28 PL35C (io), AD29 PL33A/A14 (io), AD30 PL33D (io), AE30 PL34A (io), AE31 PL34B (io), AF28 PL37A (io), AF29 PL36D (io), AF30 PL35A (io), AF31 PL35B (io), AG4 ~{RESET} (in), AG28 CCLK (io), AG29 PL36A/SECKLL (io), AG30 PL36B (io), AG31 PL36C (io), AH3 ~{PRGM} (in), AH5 DONE (io), AH29 PL38A/A15 (io), AH30 PL38B (io), AH31 PL38C (io), B4 PT37B (io), B5 PT36B (io), B6 PT35C (io), B7 PT34C (io), B8 PT33C (io), B10 PT31D (io), B11 PT29A (io), B12 PT27B (io), B13 PT26D (io), B14 PT23D (io), B15 PT22A (io), B16 PT18D (io), B17 PT17A/D2 (io), B18 PT16A (io), B19 PT14D (io), B20 PT13A (io), B21 PT10A (io), B22 PT8A (io), B23 PT6D (io), B25 PT5A/TMS (io), B26 PT4A (io), B27 PT3B (io), B28 PT1D (io), C4 PT38A (io), C5 PT36C (io), C6 PT35D (io), C7 PT34D (io), C8 PT33D/D7 (io), C9 PT33B (io), C10 PT32B (io), C11 PT30A (io), C12 PT28A (io), C13 PT27A/D5 (io), C14 PT24D (io), C15 ECKT (in), C16 PT20A/D3 (io), C17 PT16D/D1 (io), C18 PT15D (io), C19 PT14A (io), C20 PT11A/DOUT (io), C21 PT9A (io), C22 PT7D (io), C23 PT6B (io), C24 PT5D (io), C25 PT4D (io), C26 PT3D (io), C27 PT3A (io), C28 PT1A/TCK (io), D5 PT38D/SECKUR (io), D6 PT36D (io), D8 PT35A (io), D9 PT34A (io), D10 PT33A (io), D12 PT29D/D6 (io), D14 PT25D (io), D16 PT19D (io), D18 PT15A/D0/DIN (io), D19 PT12D (io), D20 PT9D (io), D22 PT6C (io), D23 PT5C (io), D24 PT4C (io), D26 PT2D (io), D27 RD_DATA/TDO (out), D29 PL1A (io), D30 PL2D (io), D31 PL2A (io), E4 ~{RD_CFG} (in), E28 PL1D (io), E29 PL3C (io), E30 PL3B (io), E31 PL3A (io), F28 PL3D/A0/~{MPI_BE0} (io), F29 PL4D (io), F30 PL4C (io), F31 PL4B (io), G30 PL5C (io), G31 PL5B (io), H28 PL4A (io), H29 PL7D (io), H30 PL7C (io), J28 PL6D (io), J29 PL7B (io), J30 PL9D (io), J31 PL9C (io), K28 PL8D/A1/~{MPI_BE1} (io), K29 PL9B (io), K30 PL9A/A2 (io), K31 PL10D (io), L29 PL10A (io), L30 PL11A/A3 (io), M28 PL11D (io), M29 PL12C (io), M30 PL13D (io), N28 PL12A (io), N29 PL13C (io), N30 PL13A/A4 (io), N31 PL14A (io), P28 PL14D/A5 (io), P29 PL15A (io), P30 PL16D (io), P31 PL17A/A6 (io), R29 ECKL (in), R30 PL18A (io), R31 PL19C (io), T28 PL20D (io), T29 PL19A/A7/MPI_CLK (io), U29 PL22D/A9/~{MPI_ACK} (io), U30 PL21A/A8/MPI_RW (io), U31 PL21C (io), V28 PL25A/A10/~{MPI_BI} (io), V29 PL24D (io), V30 PL23A (io), V31 PL22A (io), W28 PL27D (io), W29 PL26C (io), W30 PL26D (io), W31 PL24A (io), Y28 PL29D (io), Y29 PL27A/A11/~{MPI_IRQ} (io), Y30 PL26A (io)
part C pins: A1 VDD (power), A2 VSS (power), A3 VSS (power), A8 VSS (power), A12 VSS (power), A16 VSS (power), A17 VDD2 (power), A20 VSS (power), A24 VSS (power), A29 VSS (power), A30 VSS (power), A31 VDD (power), AA3 VDD2 (power), AA4 VDD (power), AA28 VDD (power), AD1 VSS (power), AD31 VSS (power), AE4 VDD (power), AE28 VDD (power), AE29 VDD2 (power), AG2 VDD2 (power), AH4 VDD (power), AH7 VDD (power), AH11 VDD (power), AH15 VDD (power), AH17 VDD (power), AH21 VDD (power), AH25 VDD (power), AH28 VDD (power), AJ1 VSS (power), AJ2 VSS (power), AJ3 VDD (power), AJ8 VDD2 (power), AJ15 VDD2 (power), AJ29 VDD (power), AJ30 VSS (power), AJ31 VSS (power), AK1 VSS (power), AK2 VDD (power), AK3 VSS (power), AK29 VSS (power), AK30 VDD (power), AK31 VSS (power), AL1 VDD (power), AL2 VSS (power), AL3 VSS (power), AL8 VSS (power), AL12 VSS (power), AL16 VSS (power), AL20 VSS (power), AL21 VDD2 (power), AL24 VSS (power), AL27 VDD2 (power), AL29 VSS (power), AL30 VSS (power), AL31 VDD (power), B1 VSS (power), B2 VDD (power), B3 VSS (power), B9 VDD2 (power), B24 VDD2 (power), B29 VSS (power), B30 VDD (power), B31 VSS (power), C1 VSS (power), C2 VSS (power), C3 VDD (power), C29 VDD (power), C30 VSS (power), C31 VSS (power), D4 VDD (power), D7 VDD (power), D11 VDD (power), D13 VDD2 (power), D15 VDD (power), D17 VDD (power), D21 VDD (power), D25 VDD (power), D28 VDD (power), G4 VDD (power), G28 VDD (power), G29 VDD2 (power), H1 VSS (power), H3 VDD2 (power), H31 VSS (power), L4 VDD (power), L28 VDD (power), L31 VDD2 (power), M1 VSS (power), M31 VSS (power), P1 VDD2 (power), R4 VDD (power), R28 VDD (power), T1 VSS (power), T30 VDD2 (power), T31 VSS (power), U4 VDD (power), U28 VDD (power), Y1 VSS (power), Y31 VSS (power)

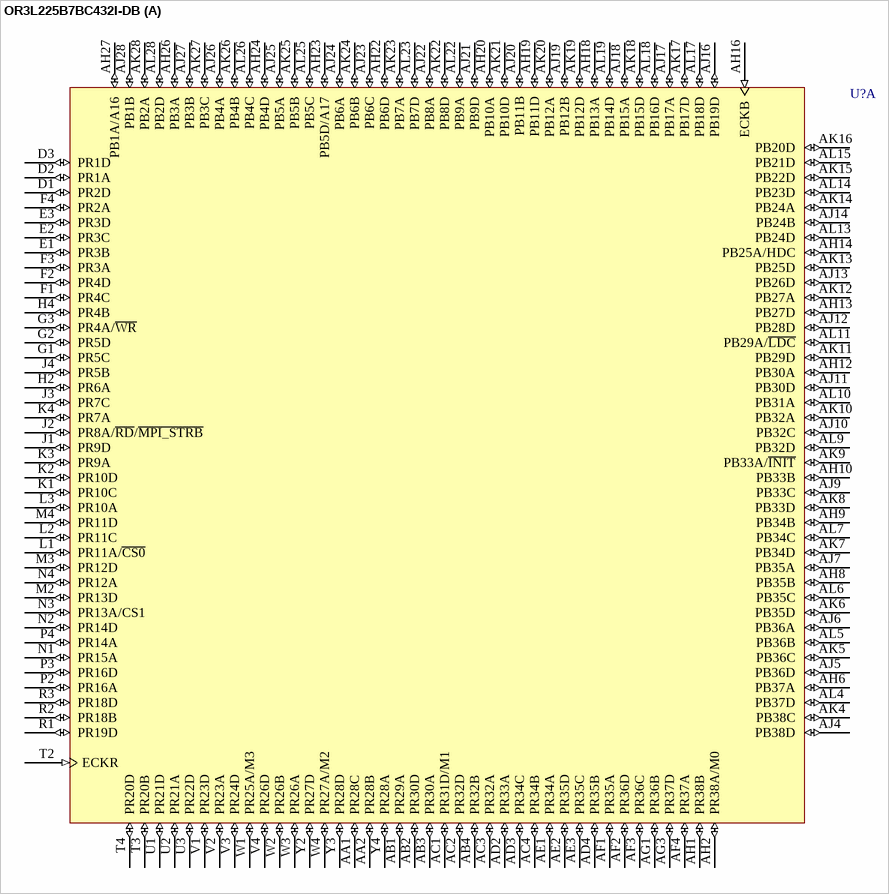
[diagram p41: symbol OR3L225B7BC432I-DB]

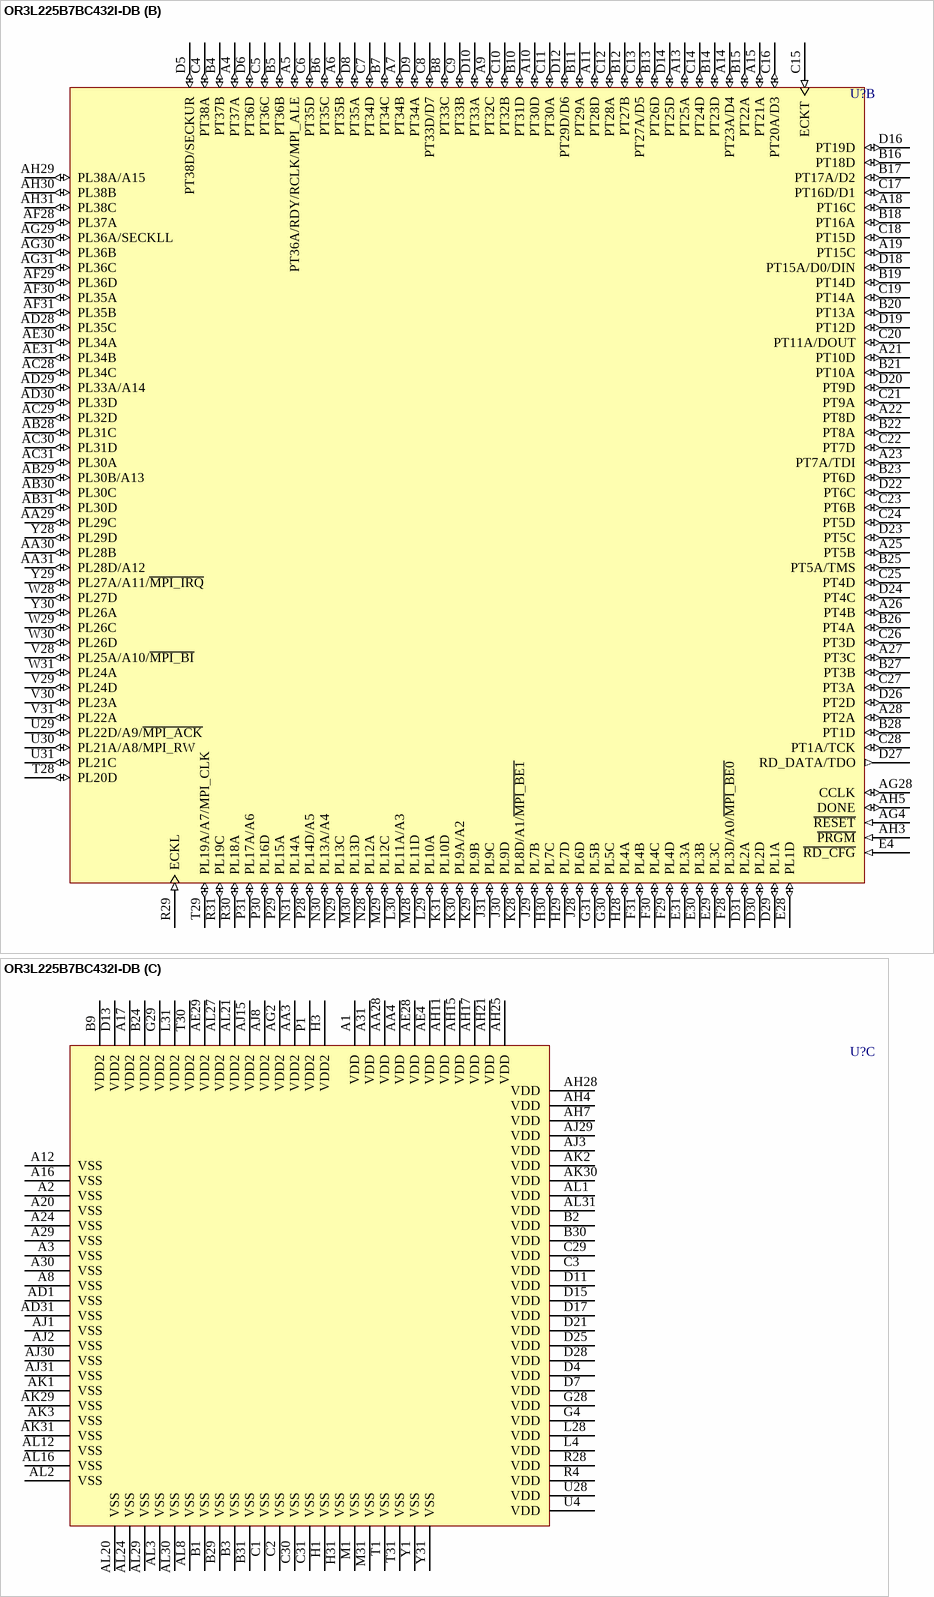
[diagram p42: symbol OR3L225B7BC432I-DB]

## OR3L225B7BC432I-DB
designator U?
ORCA Series 3L FPGA: 2.5 V, Industrial Grade, 612 I/Os.; Published: 21-May-2003; LatestRevisionDate: 13-Apr-2006; LatestRevisionNote: IPC-7351 Footprint Added.; DatasheetVersion: Mar-2002; PackageVersion: pkg_32, Aug-2005; PackageReference: SBGA432; Publisher: Altium Limited; PackageDescription: 432-Ball Super Ball Grid Array (SBGA432); ComponentLink1Description: Manufacturer Link; ComponentLink1URL: http://www.latticesemi.com/products/fpga/orca/orca3/index.cfm; ComponentLink2Description: Datasheet; ComponentLink2URL: http://www.latticesemi.com/account/_download.cfm?AMID=3971; ComponentLink3Description: Lattice Login; ComponentLink3URL: http://www.latticesemi.com/account/login.cfm
footprint SBGA432 (BGA, 432-Leads, Body 40x40mm, Pitch 1.27mm)
3D model OR3L225B-SBGA432 (432-Ball Super Ball Grid Array (SBGA432))
part A pins: AA1 PR28C (io), AA2 PR28B (io), AB1 PR29A (io), AB2 PR30D (io), AB3 PR30A (io), AB4 PR32B (io), AC1 PR31D/M1 (io), AC2 PR32D (io), AC3 PR32A (io), AC4 PR34B (io), AD2 PR33A (io), AD3 PR34C (io), AD4 PR35B (io), AE1 PR34A (io), AE2 PR35D (io), AE3 PR35C (io), AF1 PR35A (io), AF2 PR36D (io), AF3 PR36C (io), AF4 PR37A (io), AG1 PR36B (io), AG3 PR37D (io), AH1 PR38B (io), AH2 PR38A/M0 (io), AH6 PB37A (io), AH8 PB35B (io), AH9 PB34B (io), AH10 PB33B (io), AH12 PB30A (io), AH13 PB27D (io), AH14 PB25A/HDC (io), AH16 ECKB (in), AH18 PB13A (io), AH19 PB11D (io), AH20 PB10A (io), AH22 PB6D (io), AH23 PB5D/A17 (io), AH24 PB4D (io), AH26 PB3A (io), AH27 PB1A/A16 (io), AJ4 PB38D (io), AJ5 PB36D (io), AJ6 PB36A (io), AJ7 PB35A (io), AJ9 PB33C (io), AJ10 PB32C (io), AJ11 PB30D (io), AJ12 PB28D (io), AJ13 PB26D (io), AJ14 PB24B (io), AJ16 PB19D (io), AJ17 PB17A (io), AJ18 PB15A (io), AJ19 PB12B (io), AJ20 PB11B (io), AJ21 PB9D (io), AJ22 PB8A (io), AJ23 PB6C (io), AJ24 PB6A (io), AJ25 PB5A (io), AJ26 PB4A (io), AJ27 PB3B (io), AJ28 PB1B (io), AK4 PB38C (io), AK5 PB36C (io), AK6 PB35D (io), AK7 PB34D (io), AK8 PB33D (io), AK9 PB33A/~{INIT} (io), AK10 PB32A (io), AK11 PB29D (io), AK12 PB27A (io), AK13 PB25D (io), AK14 PB24A (io), AK15 PB22D (io), AK16 PB20D (io), AK17 PB17D (io), AK18 PB15D (io), AK19 PB12D (io), AK20 PB12A (io), AK21 PB10D (io), AK22 PB8D (io), AK23 PB7A (io), AK24 PB6B (io), AK25 PB5B (io), AK26 PB4B (io), AK27 PB3C (io), AK28 PB2A (io), AL4 PB37D (io), AL5 PB36B (io), AL6 PB35C (io), AL7 PB34C (io), AL9 PB32D (io), AL10 PB31A (io), AL11 PB29A/~{LDC} (io), AL13 PB24D (io), AL14 PB23D (io), AL15 PB21D (io), AL17 PB18D (io), AL18 PB16D (io), AL19 PB14D (io), AL22 PB9A (io), AL23 PB7D (io), AL25 PB5C (io), AL26 PB4C (io), AL28 PB2D (io), D1 PR2D (io), D2 PR1A (io), D3 PR1D (io), E1 PR3B (io), E2 PR3C (io), E3 PR3D (io), F1 PR4C (io), F2 PR4D (io), F3 PR3A (io), F4 PR2A (io), G1 PR5C (io), G2 PR5D (io), G3 PR4A/~{WR} (io), H2 PR6A (io), H4 PR4B (io), J1 PR9D (io), J2 PR8A/~{RD}/~{MPI_STRB} (io), J3 PR7C (io), J4 PR5B (io), K1 PR10C (io), K2 PR10D (io), K3 PR9A (io), K4 PR7A (io), L1 PR11A/~{CS0} (io), L2 PR11C (io), L3 PR10A (io), M2 PR13D (io), M3 PR12D (io), M4 PR11D (io), N1 PR15A (io), N2 PR14D (io), N3 PR13A/CS1 (io), N4 PR12A (io), P2 PR16A (io), P3 PR16D (io), P4 PR14A (io), R1 PR19D (io), R2 PR18B (io), R3 PR18D (io), T2 ECKR (in), T3 PR20B (io), T4 PR20D (io), U1 PR21D (io), U2 PR21A (io), U3 PR22D (io), V1 PR23D (io), V2 PR23A (io), V3 PR24D (io), V4 PR26D (io), W1 PR25A/M3 (io), W2 PR26B (io), W3 PR26A (io), W4 PR27A/M2 (io), Y2 PR27D (io), Y3 PR28D (io), Y4 PR28A (io)
part B pins: A4 PT37A (io), A5 PT36A/RDY/RCLK/MPI_ALE (io), A6 PT35B (io), A7 PT34B (io), A9 PT32C (io), A10 PT30D (io), A11 PT28D (io), A13 PT25A (io), A14 PT23A/D4 (io), A15 PT21A (io), A18 PT16C (io), A19 PT15C (io), A21 PT10D (io), A22 PT8D (io), A23 PT7A/TDI (io), A25 PT5B (io), A26 PT4B (io), A27 PT3C (io), A28 PT2A (io), AA29 PL29C (io), AA30 PL28B (io), AA31 PL28D/A12 (io), AB28 PL31C (io), AB29 PL30B/A13 (io), AB30 PL30C (io), AB31 PL30D (io), AC28 PL34C (io), AC29 PL32D (io), AC30 PL31D (io), AC31 PL30A (io), AD28 PL35C (io), AD29 PL33A/A14 (io), AD30 PL33D (io), AE30 PL34A (io), AE31 PL34B (io), AF28 PL37A (io), AF29 PL36D (io), AF30 PL35A (io), AF31 PL35B (io), AG4 ~{RESET} (in), AG28 CCLK (io), AG29 PL36A/SECKLL (io), AG30 PL36B (io), AG31 PL36C (io), AH3 ~{PRGM} (in), AH5 DONE (io), AH29 PL38A/A15 (io), AH30 PL38B (io), AH31 PL38C (io), B4 PT37B (io), B5 PT36B (io), B6 PT35C (io), B7 PT34C (io), B8 PT33C (io), B10 PT31D (io), B11 PT29A (io), B12 PT27B (io), B13 PT26D (io), B14 PT23D (io), B15 PT22A (io), B16 PT18D (io), B17 PT17A/D2 (io), B18 PT16A (io), B19 PT14D (io), B20 PT13A (io), B21 PT10A (io), B22 PT8A (io), B23 PT6D (io), B25 PT5A/TMS (io), B26 PT4A (io), B27 PT3B (io), B28 PT1D (io), C4 PT38A (io), C5 PT36C (io), C6 PT35D (io), C7 PT34D (io), C8 PT33D/D7 (io), C9 PT33B (io), C10 PT32B (io), C11 PT30A (io), C12 PT28A (io), C13 PT27A/D5 (io), C14 PT24D (io), C15 ECKT (in), C16 PT20A/D3 (io), C17 PT16D/D1 (io), C18 PT15D (io), C19 PT14A (io), C20 PT11A/DOUT (io), C21 PT9A (io), C22 PT7D (io), C23 PT6B (io), C24 PT5D (io), C25 PT4D (io), C26 PT3D (io), C27 PT3A (io), C28 PT1A/TCK (io), D5 PT38D/SECKUR (io), D6 PT36D (io), D8 PT35A (io), D9 PT34A (io), D10 PT33A (io), D12 PT29D/D6 (io), D14 PT25D (io), D16 PT19D (io), D18 PT15A/D0/DIN (io), D19 PT12D (io), D20 PT9D (io), D22 PT6C (io), D23 PT5C (io), D24 PT4C (io), D26 PT2D (io), D27 RD_DATA/TDO (out), D29 PL1A (io), D30 PL2D (io), D31 PL2A (io), E4 ~{RD_CFG} (in), E28 PL1D (io), E29 PL3C (io), E30 PL3B (io), E31 PL3A (io), F28 PL3D/A0/~{MPI_BE0} (io), F29 PL4D (io), F30 PL4C (io), F31 PL4B (io), G30 PL5C (io), G31 PL5B (io), H28 PL4A (io), H29 PL7D (io), H30 PL7C (io), J28 PL6D (io), J29 PL7B (io), J30 PL9D (io), J31 PL9C (io), K28 PL8D/A1/~{MPI_BE1} (io), K29 PL9B (io), K30 PL9A/A2 (io), K31 PL10D (io), L29 PL10A (io), L30 PL11A/A3 (io), M28 PL11D (io), M29 PL12C (io), M30 PL13D (io), N28 PL12A (io), N29 PL13C (io), N30 PL13A/A4 (io), N31 PL14A (io), P28 PL14D/A5 (io), P29 PL15A (io), P30 PL16D (io), P31 PL17A/A6 (io), R29 ECKL (in), R30 PL18A (io), R31 PL19C (io), T28 PL20D (io), T29 PL19A/A7/MPI_CLK (io), U29 PL22D/A9/~{MPI_ACK} (io), U30 PL21A/A8/MPI_RW (io), U31 PL21C (io), V28 PL25A/A10/~{MPI_BI} (io), V29 PL24D (io), V30 PL23A (io), V31 PL22A (io), W28 PL27D (io), W29 PL26C (io), W30 PL26D (io), W31 PL24A (io), Y28 PL29D (io), Y29 PL27A/A11/~{MPI_IRQ} (io), Y30 PL26A (io)
part C pins: A1 VDD (power), A2 VSS (power), A3 VSS (power), A8 VSS (power), A12 VSS (power), A16 VSS (power), A17 VDD2 (power), A20 VSS (power), A24 VSS (power), A29 VSS (power), A30 VSS (power), A31 VDD (power), AA3 VDD2 (power), AA4 VDD (power), AA28 VDD (power), AD1 VSS (power), AD31 VSS (power), AE4 VDD (power), AE28 VDD (power), AE29 VDD2 (power), AG2 VDD2 (power), AH4 VDD (power), AH7 VDD (power), AH11 VDD (power), AH15 VDD (power), AH17 VDD (power), AH21 VDD (power), AH25 VDD (power), AH28 VDD (power), AJ1 VSS (power), AJ2 VSS (power), AJ3 VDD (power), AJ8 VDD2 (power), AJ15 VDD2 (power), AJ29 VDD (power), AJ30 VSS (power), AJ31 VSS (power), AK1 VSS (power), AK2 VDD (power), AK3 VSS (power), AK29 VSS (power), AK30 VDD (power), AK31 VSS (power), AL1 VDD (power), AL2 VSS (power), AL3 VSS (power), AL8 VSS (power), AL12 VSS (power), AL16 VSS (power), AL20 VSS (power), AL21 VDD2 (power), AL24 VSS (power), AL27 VDD2 (power), AL29 VSS (power), AL30 VSS (power), AL31 VDD (power), B1 VSS (power), B2 VDD (power), B3 VSS (power), B9 VDD2 (power), B24 VDD2 (power), B29 VSS (power), B30 VDD (power), B31 VSS (power), C1 VSS (power), C2 VSS (power), C3 VDD (power), C29 VDD (power), C30 VSS (power), C31 VSS (power), D4 VDD (power), D7 VDD (power), D11 VDD (power), D13 VDD2 (power), D15 VDD (power), D17 VDD (power), D21 VDD (power), D25 VDD (power), D28 VDD (power), G4 VDD (power), G28 VDD (power), G29 VDD2 (power), H1 VSS (power), H3 VDD2 (power), H31 VSS (power), L4 VDD (power), L28 VDD (power), L31 VDD2 (power), M1 VSS (power), M31 VSS (power), P1 VDD2 (power), R4 VDD (power), R28 VDD (power), T1 VSS (power), T30 VDD2 (power), T31 VSS (power), U4 VDD (power), U28 VDD (power), Y1 VSS (power), Y31 VSS (power)

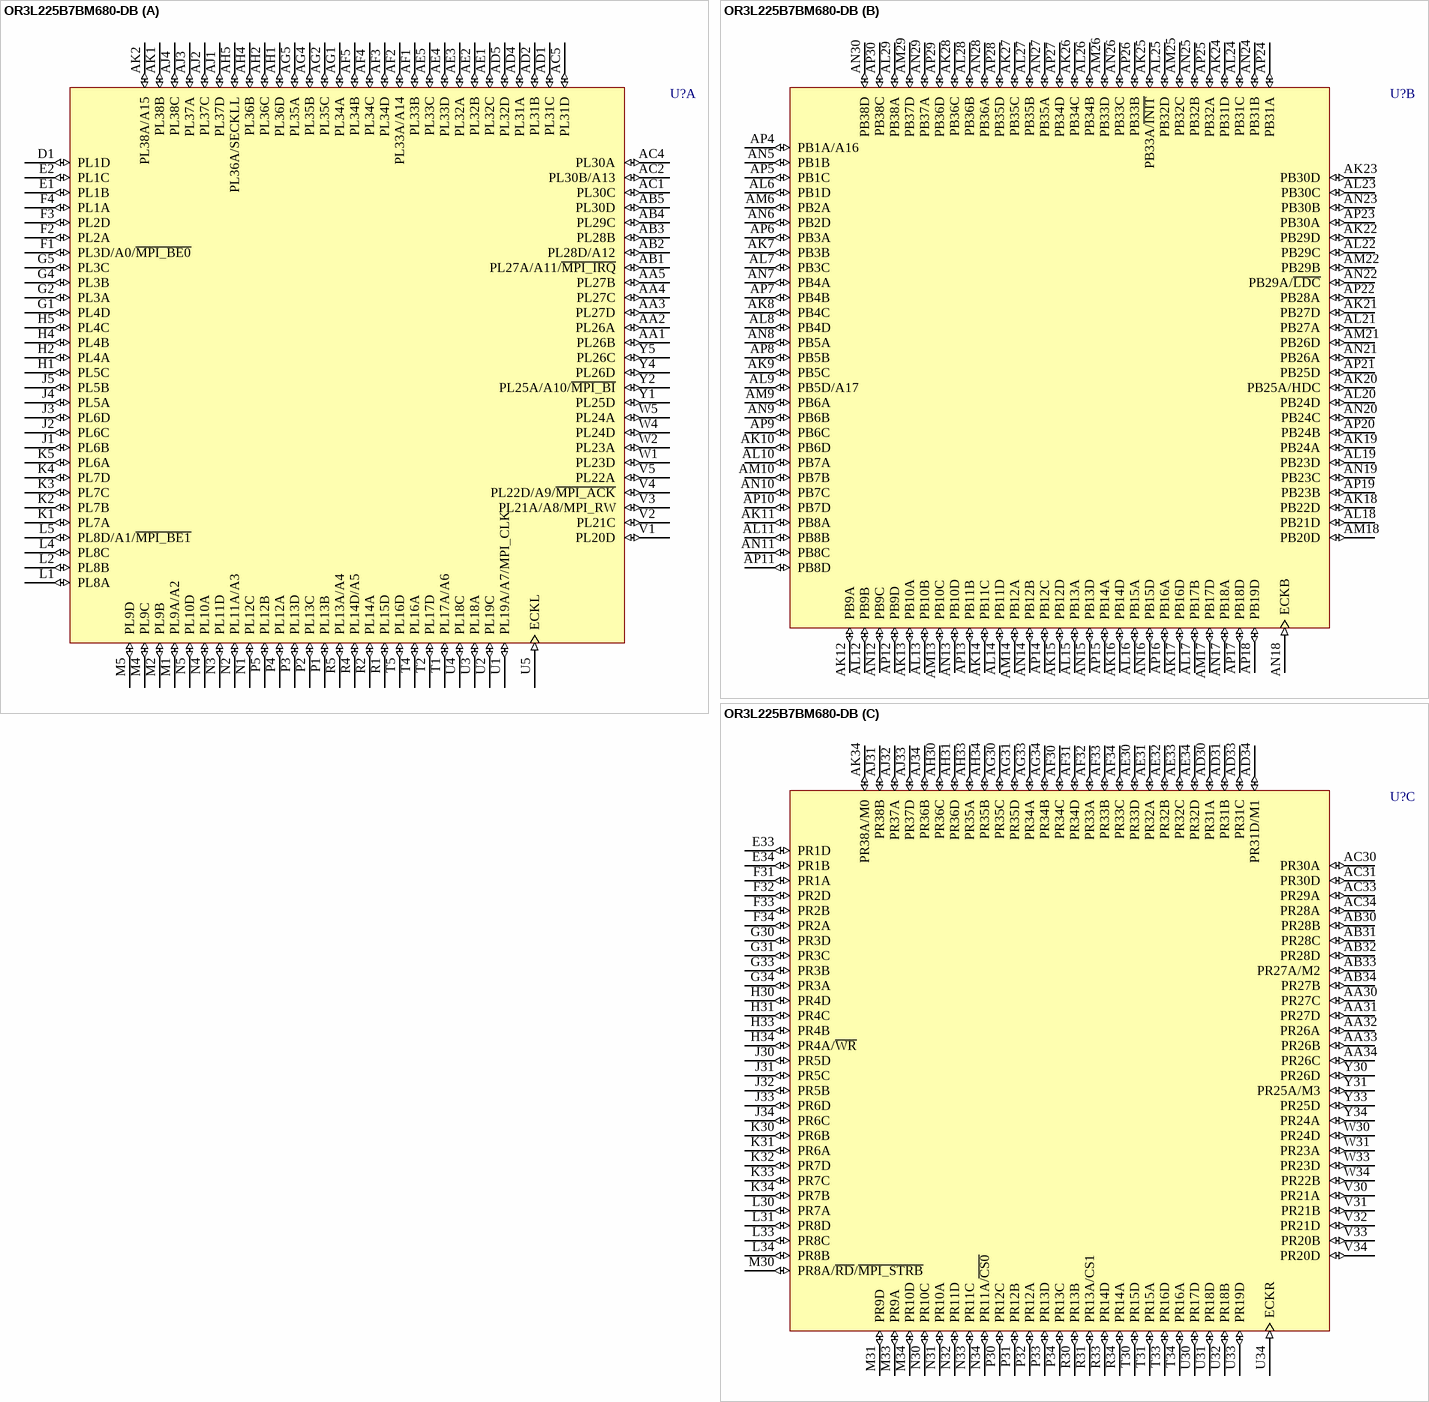
[diagram p43: symbol OR3L225B7BM680-DB]

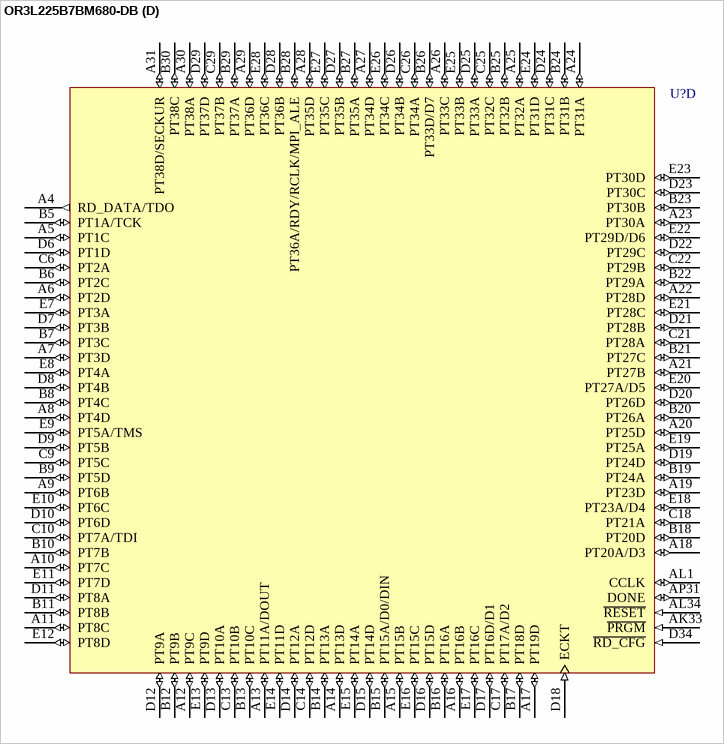
[diagram p44: symbol OR3L225B7BM680-DB]

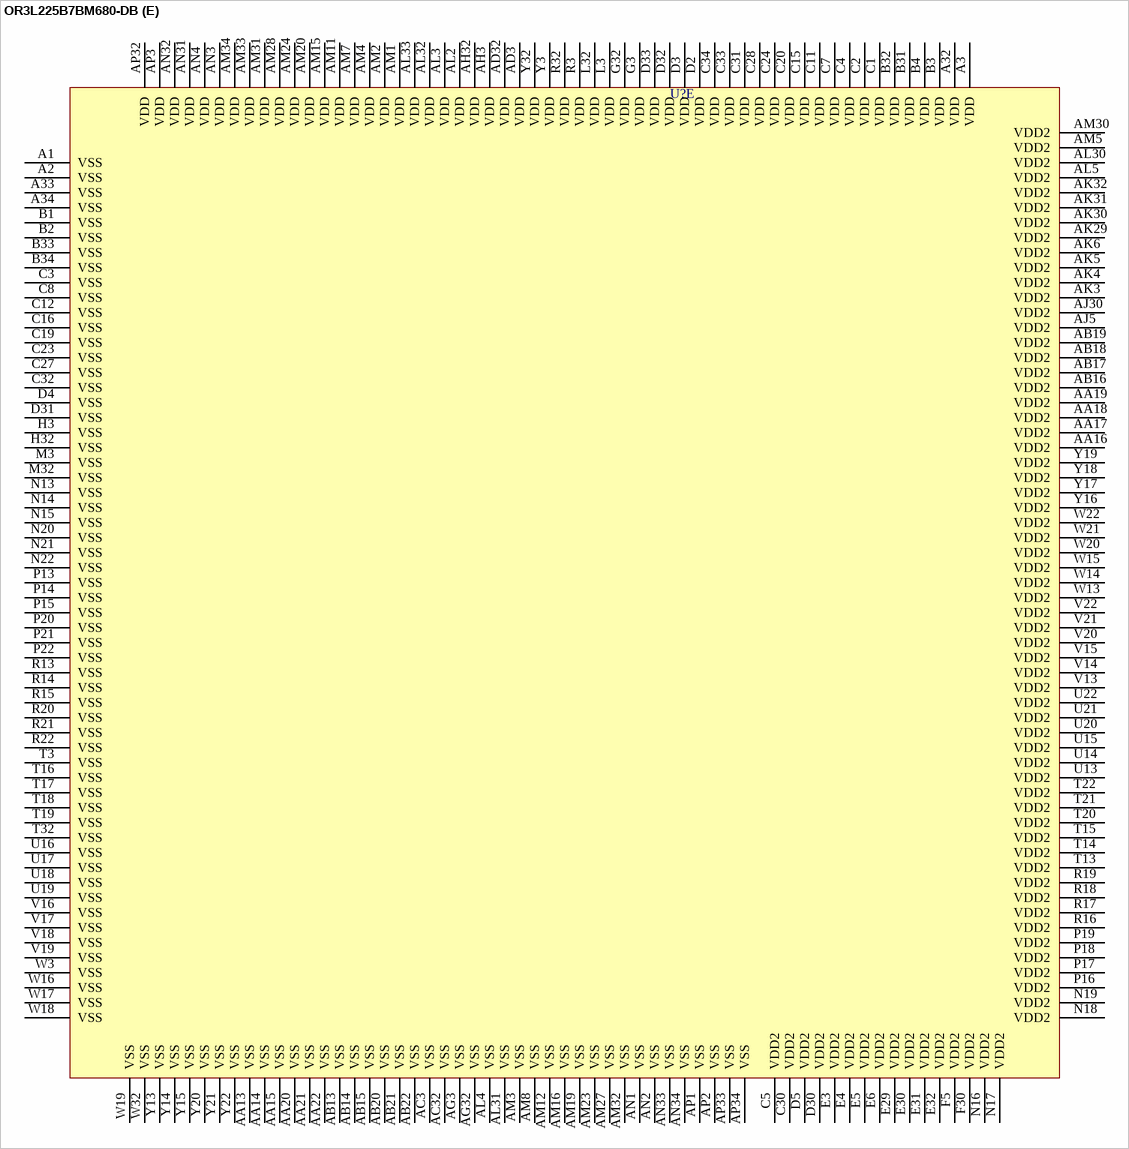
[diagram p45: symbol OR3L225B7BM680-DB]